# Altium schematic symbol library B5817W-TP.SchLib: 1 symbol
Pins are listed as number, name and electrical type; pins without a type are passive.

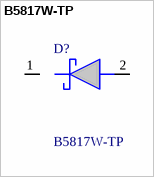
[diagram p0: symbol B5817W-TP]

## B5817W-TP
designator D?
Diode 20 V 1A Surface Mount SOD-123; Manufacturer_Name: MCC; Geometry.Height: 1.35mm; Mouser Part Number: 833-B5817W-TP; Mouser Price/Stock: https://www.mouser.co.uk/ProductDetail/Micro-Commercial-Components-MCC/B5817W-TP?qs=6viq6gG%252BWEv8BqnTXWtCWg%3D%3D; Manufacturer_Part_Number: B5817W-TP; Datasheet Link: https://www.mccsemi.com/pdf/Products/B5817W-B5819W(SOD-123).pdf
footprint SOD3716X135N
pins: 1 K, 2 A